# Altium schematic symbol library MB10S.Schlib: 1 symbol
Pins are listed as number, name and electrical type; pins without a type are passive.

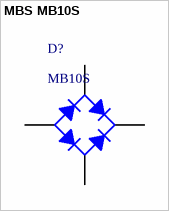
[diagram p0: symbol MBS MB10S]

## MBS MB10S
designator D?, comment MB10S
整流桥
footprint MBS
pins: 1 C, 2 K, 3 C, 4 A